# Altium footprint library OthersComponents.PcbLib: 3 footprints
Each footprint in its own frame and in the unit in brackets; x right, y up, seen from the top. Pads: shape width x height; smd on the part's side, far side on the other; paste and mask are expansions set on the pad; w line width, h text height; cw(c..) or ccw(c..) is an arc to the next point about the centre after c.
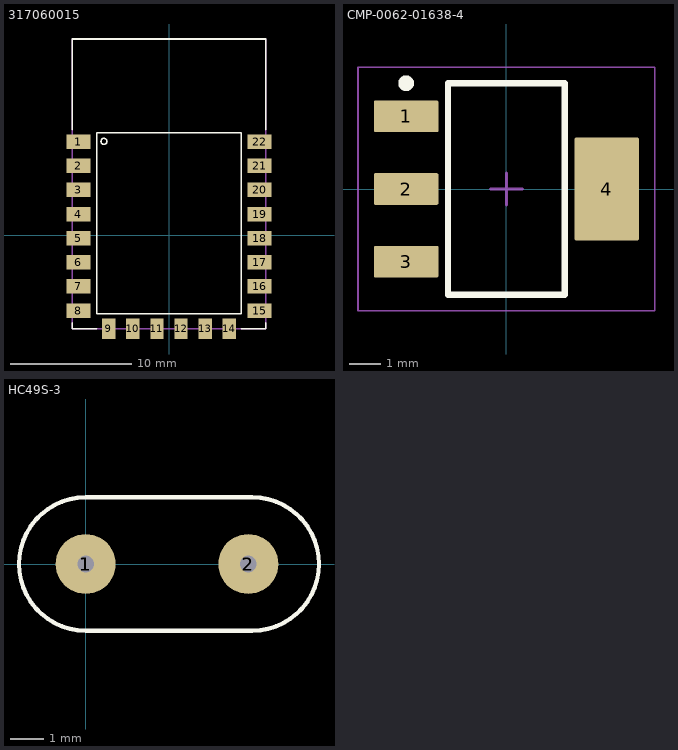
[diagram p0: the footprints below, top view; thin cyan lines are the x and y axes]

## 317060015 [mm] "ESP_12_E"
pads (22):
  rect 2x1.2 smd: 1(-7.5,7.75) 2(-7.5,5.75) 3(-7.5,3.75) 4(-7.5,1.75) 5(-7.5,-0.25) 6(-7.5,-2.25) 7(-7.5,-4.25) 8(-7.5,-6.25) 15(7.5,-6.25) 16(7.5,-4.25) 17(7.5,-2.25) 18(7.5,-0.25) 19(7.5,1.75) 20(7.5,3.75) 21(7.5,5.75) 22(7.5,7.75)
  rect 1.1x1.7 smd: 9(-5,-7.75) 10(-3,-7.75) 11(-1,-7.75) 12(1,-7.75) 13(3,-7.75) 14(5,-7.75)
Top Overlay:
  circle w0.127: c-5.385,7.772 r0.25
  lines w0.127: -8,-7.25 -8,-7.75 -6,-7.75 ; -8,8.75 -8,16.25 8,16.25 8,8.75 ; 6,-7.75 8,-7.75 8,-7.25 ; -6,-6.51 6,-6.51 6,8.49 -6,8.49 -6,-6.51
Mechanical 13:
  lines w0.127: -8,-7.75 8,-7.75 8,16.25 -8,16.25 -8,-7.75
3D body "ESP8266-12E-ESP-12E--3DModel-STEP-1.STEP": height 3, standoff 0, extent -7.999,-7.769 8.001,16.231

## CMP-0062-01638-4 [mm] "SOT223, 4-Leads, Body 6.7x3.7mm, Pitch 2.3mm, IPC Low Density"
height 1.8
pads (4):
  rrect10% 2.05x1 smd: 1(-3.175,2.3) 2(-3.175,0) 3(-3.175,-2.3)
  rrect5% 2.05x3.25 smd: 4(3.175,0)
Top Overlay:
  circle w0.25: c-3.175,3.35 r0.125
  lines w0.2: -1.85,-3.35 1.85,-3.35 1.85,3.35 -1.85,3.35 -1.85,-3.35
Mechanical 1:
  text ".Designator" at -1.651,-0.381 h0.8
Mechanical 13:
  lines w0.1: -1.85,-3.35 1.85,-3.35 1.85,3.35 -1.85,3.35 -1.85,-3.35
Mechanical 15:
  lines w0.05: -4.7,-3.85 4.7,-3.85 4.7,3.85 -4.7,3.85 -4.7,-3.85
  lines w0.1: -0.5,0 0.5,0 ; 0,-0.5 0,0.5
3D body "SOT-223.stp": height 1.62, standoff -0.03, extent -3.5,-3.25 3.5,3.25

## HC49S-3 [mm]
pads (5):
  round 1.8 hole 0.5: 1(0,0) 1(0,0) 1(0,0) 2(4.88,0) 2(4.88,0)
Top Overlay:
  lines w0.127: 0,-2 cw(c0,0) 0,2 ; 0,-2 cw(c0,0) 0,2 ; 0,-2 cw(c0,0) 0,2 ; 0,-2 5,-2 ; 0,-2 5,-2 ; 0,-2 5,-2 ; 0,2 5,2 ; 0,2 5,2 ; 0,2 5,2 ; 5,-2 ccw(c5,0) 5,2 ; 5,-2 ccw(c5,0) 5,2 ; 5,-2 ccw(c5,0) 5,2